# EAGLE library part LTC1865L (library adc_dac)
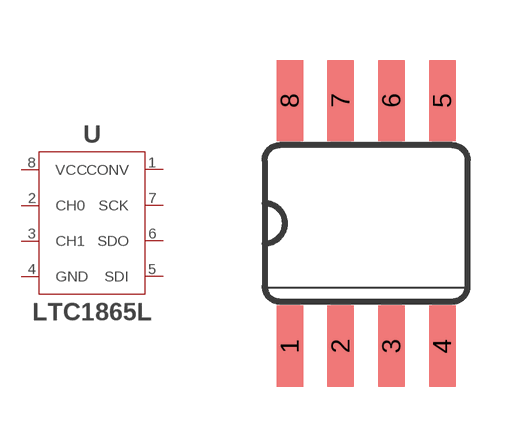
[diagram p1: symbol with the pads of SO08; footprint SO08]

Designator prefix U

## LTC1865L  [SO08]
1  CONV  in
2  CH0  in
3  CH1  in
4  GND
5  SDI  in
6  SDO  out
7  SCK  in
8  VCC  pwr

## Footprint SO08 (pad centres in mm)
Small Outline package 150 mil
smd 0.66 x 2.032: 1 -1.905,-3.073; 2 -0.635,-3.073; 3 0.635,-3.073; 4 1.905,-3.073; 5 1.905,3.073; 6 0.635,3.073; 7 -0.635,3.073; 8 -1.905,3.073